# Altium schematic symbol library Power.SchLib: 4 symbols
Pins are listed as number, name and electrical type; pins without a type are passive.

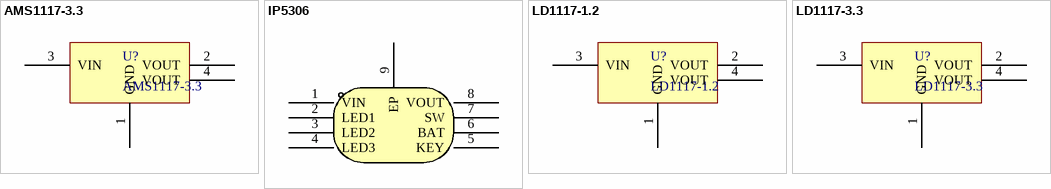
[diagram p0: symbols AMS1117-3.3 to LD1117-3.3]

## AMS1117-3.3
designator U?
低压差线性稳压器3.3V
footprint SOT-223-3_L6.5-W3.4-P2.30-LS7.0-BR
pins: 1 GND, 2 VOUT, 3 VIN, 4 VOUT

## IP5306
designator U??  (value not drawn)
Manufacturer: INJOINIC(英集芯); Add into BOM: yes; Name: IP5306; Symbol: IP5306; Device: IP5306; LCSC Part Name: IP5306; Supplier Part: C181692; Manufacturer Part: IP5306; Supplier Footprint: ESOP-8; JLCPCB Part Class: Extended Part; Datasheet: https://atta.szlcsc.com/upload/public/pdf/source/20180920/C181692_842C9BF636DF123BB66E91FC1AD6F13F.pdf; Supplier: LCSC; Convert to PCB: yes
footprint ESOP-8_L4.9-W3.9-P1.27-LS6.0-BL-EP
3D model ESOP-8_L4.9-W3.9-H1.6-LS6.0-P1.27
pins: 1 VIN, 2 LED1, 3 LED2, 4 LED3, 5 KEY, 6 BAT, 7 SW, 8 VOUT, 9 EP

## LD1117-1.2
designator U?
低压差线性稳压器1.2V
footprint SOT-223-3_L6.5-W3.4-P2.30-LS7.0-BR
pins: 1 GND, 2 VOUT, 3 VIN, 4 VOUT

## LD1117-3.3
designator U?
低压差线性稳压器3.3V
footprint SOT-223-3_L6.5-W3.4-P2.30-LS7.0-BR
pins: 1 GND, 2 VOUT, 3 VIN, 4 VOUT